# Altium schematic symbol library TPS84320RUQR.SchLib: 1 symbol
Pins are listed as number, name and electrical type; pins without a type are passive.

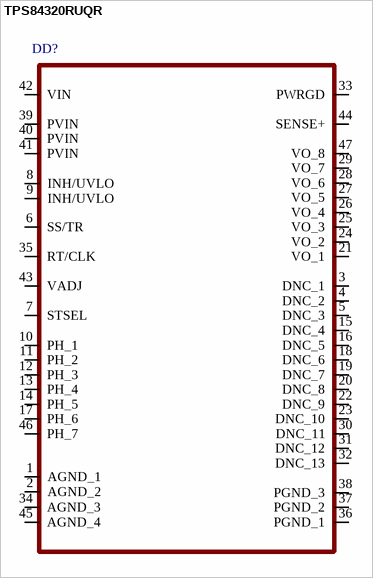
[diagram p0: symbol TPS84320RUQR]

## TPS84320RUQR
designator DD?
pins: 1 AGND_1, 2 AGND_2, 3 DNC_1, 4 DNC_2, 5 DNC_3, 6 SS/TR, 7 STSEL, 8 INH/UVLO, 9 INH/UVLO, 10 PH_1, 11 PH_2, 12 PH_3, 13 PH_4, 14 PH_5, 15 DNC_4, 16 DNC_5, 17 PH_6, 18 DNC_6, 19 DNC_7, 20 DNC_8, 21 VO_1, 22 DNC_9, 23 DNC_10, 24 VO_2, 25 VO_3, 26 VO_4, 27 VO_5, 28 VO_6, 29 VO_7, 30 DNC_11, 31 DNC_12, 32 DNC_13, 33 PWRGD, 34 AGND_3, 35 RT/CLK, 36 PGND_1, 37 PGND_2, 38 PGND_3, 39 PVIN, 40 PVIN, 41 PVIN, 42 VIN, 43 VADJ, 44 SENSE+, 45 AGND_4, 46 PH_7, 47 VO_8